# Altium footprint library UNO.PcbLib: 26 footprints (part 1 of 2)
Each footprint in its own frame and in the unit in brackets; x right, y up, seen from the top. Pads: shape width x height; smd on the part's side, far side on the other; paste and mask are expansions set on the pad; w line width, h text height; cw(c..) or ccw(c..) is an arc to the next point about the centre after c.
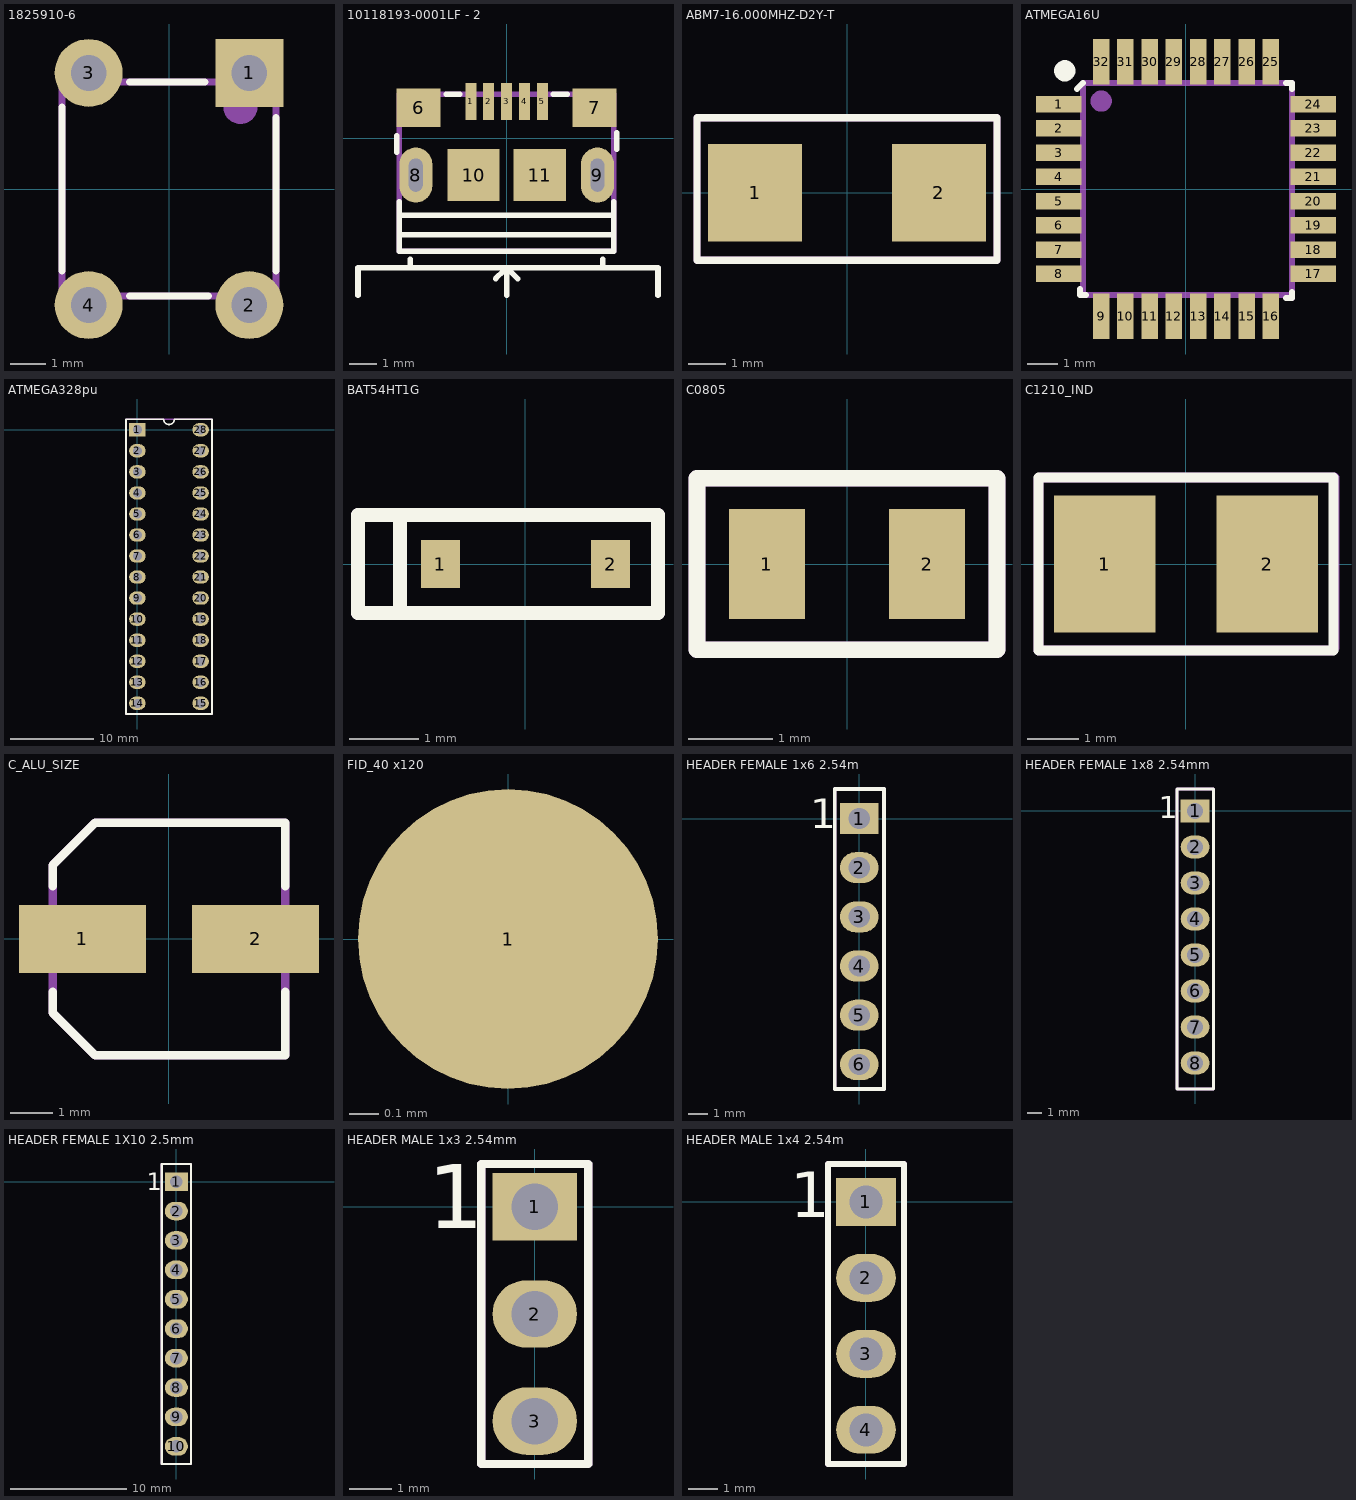
[diagram p0: the footprints below, top view; thin cyan lines are the x and y axes]

## 28-DIP-7.5MM SOCKET [mm]
3D body "dil_socket.stp": height 4.2, standoff -3.17, extent -1.85,-33.75 8.25,1.75

## 1825910-6 [mm]
pads (4):
  rect 1.9x1.9 hole 1: 1(2.25,3.25)
  round 1.9 hole 1: 2(2.25,-3.25) 3(-2.25,3.25) 4(-2.25,-3.25)
Top Overlay:
  lines w0.2: -3,-2.3 -3,2.3 ; -1.1,-3 1.1,-3 ; -1.1,3 1,3 ; 3,-2.3 3,2
Mechanical 29:
  circle w0.508: c2,2.3 r0.224
  lines w0.2: -2.9,-3 3,-3 3,3 -1.1,3 -3,3 -3,2.3 -3,-3 -2.6,-3
  text "'.Designator'" at -1.8,0.286 h1.52
3D body "User Library-FSM4JLH(1825910-5).step": height 5, standoff -3.51, extent -2.995,-3.899 2.995,3.9

## 10118193-0001LF - 2 [mm]
pads (11):
  rect 0.4x1.35 smd paste+0 mask+0.03: 1(-1.3,1.338) 2(-0.65,1.338) 3(0,1.338) 4(0.65,1.338) 5(1.3,1.338)
  rect 1.6x1.4 smd paste+0: 6(-3.2,1.113) 7(3.2,1.113)
  oval 1.2x2 hole 0.5 slot 1.2 at 90 deg paste+0 mask+0.05: 8(-3.3,-1.337) 9(3.3,-1.337)
  rect 1.9x1.9 smd: 10(-1.2,-1.337)
  rect 1.9x1.9 smd paste+0: 11(1.2,-1.337)
Top Overlay:
  lines w0.2: -5.4,-5.7 -5.4,-4.7 3.5,-4.7 ; -4,-0.5 -4,0.1 ; -3.9,-2.3 -3.9,-4.1 3.9,-4.1 3.9,-2.3 ; -3.8,-3.5 3.8,-3.5 ; -3.8,-2.8 3.8,-2.8 ; -3.5,-4.7 -3.5,-4.4 ; -2.2,1.6 -1.7,1.6 ; -0.4,-5.1 -0.1,-4.8 0,-4.8 ; 0,-5.7 0,-4.8 ; 0.05,-4.8 0.1,-4.8 ; 0.4,-5.1 0.1,-4.8 ; 1.7,1.6 2.2,1.6 ; 3.5,-4.4 3.5,-4.7 ; 4,-0.4 4,0.2 ; 5.5,-5.7 5.5,-4.7 3.5,-4.7 ; 0,-4.8 0.1,-4.8
Mechanical 29:
  lines w0.2: -3.9,-4.1 3.9,-4.1 3.9,1.6 -3.9,1.6 -3.9,-4.1
  text "'.Designator'" at -2,-1.414 h1.52
3D body "10118193-0001lfc.stp": height 2.88, standoff -0.92, extent -3.903,-4.171 3.953,1.613

## ABM7-16.000MHZ-D2Y-T [mm]
pads (2):
  rect 2.5x2.6 smd: 1(-2.45,0) 2(2.45,0)
Top Overlay:
  lines w0.2: -4,-1.8 4,-1.8 4,-1.7 4,2 -4,2 -4,-1.8
Mechanical 29:
  lines w0.2: -4,-1.8 4,-1.8 4,2 -2.4,2 -4,2 -4,-1.8
  text "'.Designator'" at -3.046,-0.279 h0.5
3D body "ABM7.STEP": height 1.41, standoff 0.01, extent -2.797,-1.705 3.197,1.8

## ATMEGA16U [mm]
pads (32):
  rect 1.5x0.55 smd paste+0 mask+0.06: 1(-4.2,2.8) 2(-4.2,2) 3(-4.2,1.2) 4(-4.2,0.4) 5(-4.2,-0.4) 6(-4.2,-1.2) 7(-4.2,-2) 8(-4.2,-2.8) 17(4.2,-2.8) 18(4.2,-2) 19(4.2,-1.2) 20(4.2,-0.4) 21(4.2,0.4) 22(4.2,1.2) 23(4.2,2) 24(4.2,2.8)
  rect 0.55x1.5 smd paste+0 mask+0.06: 9(-2.8,-4.2) 10(-2,-4.2) 11(-1.2,-4.2) 12(-0.4,-4.2) 13(0.4,-4.2) 14(1.2,-4.2) 15(2,-4.2) 16(2.8,-4.2) 25(2.8,4.2) 26(2,4.2) 27(1.2,4.2) 28(0.4,4.2) 29(-0.4,4.2) 30(-1.2,4.2) 31(-2,4.2) 32(-2.8,4.2)
Top Overlay:
  circle w0.5: c-4,3.9 r0.1
  lines w0.2: -3.6,3.3 -3.4,3.5 ; -3.5,-3.3 -3.5,-3.5 -3.3,-3.5 ; 3.3,-3.6 3.5,-3.6 3.5,-3.4 ; 3.3,3.5 3.5,3.5 3.5,3.3
Mechanical 29:
  circle w0.5: c-2.8,2.9 r0.1
  lines w0.2: -3.4,-3.5 -3.4,3.5 3.5,3.5 3.5,-3.6 3.4,-3.5 -3.4,-3.5
  text "'.Designator'" at -3.046,-0.538 h1.52
3D body "User Library-tqfp32.step": height 1.2, standoff 0, extent -4.599,-4.6 4.599,4.599

## ATMEGA328pu [mm]
pads (28):
  rect 2x1.6 hole 1.1: 1(0,0)
  oval 2x1.6 hole 1.1: 2(0,-2.54) 3(0,-5.08) 4(0,-7.62) 5(0,-10.16) 6(0,-12.7) 7(0,-15.24) 8(0,-17.78) 9(0,-20.32) 10(0,-22.86) 11(0,-25.4) 12(0,-27.94) 13(0,-30.48) 14(0,-33.02) 15(7.62,-33.02) 16(7.62,-30.48) 17(7.62,-27.94) 18(7.62,-25.4) 19(7.62,-22.86) 20(7.62,-20.32) 21(7.62,-17.78) 22(7.62,-15.24) 23(7.62,-12.7) 24(7.62,-10.16) 25(7.62,-7.62) 26(7.62,-5.08) 27(7.62,-2.54) 28(7.62,0)
Top Overlay:
  lines w0.2: -1.39,-34.31 -1.39,1.27 3.175,1.27 ccw(c3.81,1.27) 4.445,1.27 9.01,1.27 9.01,-34.31 -1.39,-34.31
Mechanical 29:
  circle w0.5: c-0.09,0.09 r0.224
  lines w0.2: -1.39,-34.31 9.01,-34.31 9.01,1.29 -1.39,1.29 -1.39,-34.31
  text "'.Designator'" at 3.948,-18.756 h1.52
3D body "User Library-28 pin dip-2.step": height 1.65, standoff -4.57, extent -0.19,-34.48 7.684,1.46

## BAT54HT1G [mil]
pads (2):
  rect 22x27 smd: 1(-48,0) 2(48,0)
Top Overlay:
  lines w7.87: -70.87,-27.56 -94.49,-27.56 -94.49,27.56 -70.87,27.56 ; -70.87,-27.56 74.8,-27.56 74.8,-13.78 74.8,13.78 74.8,27.56 -66.93,27.56 -70.87,27.56 ; -70.87,-27.56 -70.87,27.56
Mechanical 29:
  lines w7.87: -70.87,-27.56 -94.49,-27.56 -94.49,27.56 -70.87,27.56 ; -70.87,-27.56 74.8,-27.56 74.8,27.56 -70.87,27.56 ; -70.87,-27.56 -70.87,27.56
  text "'.Designator'" at -19.68,3.39 h60
3D body "User Library-SOD323.step": height 35.43, standoff -3.54, extent -47.24,-21.65 51.18,27.56

## C0805 [mm]
pads (2):
  rect 0.9x1.3 smd: 1(-0.95,0) 2(0.95,0)
Top Overlay:
  lines w0.2: -1.778,-1.016 -1.778,0 -1.778,1.016 1.778,1.016 1.778,-1.016 -1.778,-1.016
Mechanical 29:
  lines w0.2: -1.778,-1.016 1.778,-1.016 1.778,1.016 -1.778,1.016 -1.778,-0.508 -1.778,-1.016
  text "'.Designator'" at -1.524,-0.142 h0.6
3D body "CAPC2012X94N EIA 0805.step": height 1.13, standoff 0.19, extent -1,-0.6 1,0.6
3D body "CAPC2012X94N EIA 0805.step": height 0.95, standoff 0.01, extent -1,-0.6 1,0.6

## C1210_IND [mm]
pads (2):
  rect 2x2.7 smd: 1(-1.6,0) 2(1.6,0)
Top Overlay:
  lines w0.2: -2.9,-1.7 2.9,-1.7 2.9,1.7 -2.9,1.7 -2.9,0.85 -2.9,-1.7
Mechanical 29:
  lines w0.2: -2.9,1.672 -2.9,-1.7 -2.898,-1.702 2.87,-1.702 2.921,-1.651 2.921,1.702 -2.87,1.702
  text "'.Designator'" at -1.4,-0.614 h1.52
3D body: height 2.7, standoff -0.01, extent -1.4,-1.25 1.4,1.245
3D body: height 2.7, standoff -0.01, extent -1.903,-1.245 -1.403,1.245
3D body: height 2.7, standoff -0.01, extent 1.401,-1.245 1.901,1.245

## C_ALU_SIZE [mm]
pads (2):
  rect 3x1.6 smd: 1(-2.05,0) 2(2.05,0)
Top Overlay:
  lines w0.2: -2.75,-1.25 -2.75,-1.75 -1.75,-2.75 2.75,-2.75 2.75,-1.25 ; -2.75,1.25 -2.75,1.75 -1.75,2.75 2.75,2.75 2.75,1.25
Mechanical 29:
  lines w0.2: -2.75,1.25 -2.75,1.75 ; -2.75,1.75 -2.75,-1.75 -1.75,-2.75 2.75,-2.75 2.75,2.75 -1.75,2.75 -2.75,1.75
  text "'.Designator'" at -2,-0.214 h1.52
3D body "User Library-capacitor size C.step": height 5.41, standoff -0.01, extent -2.95,-2.65 2.95,2.65

## FID_40 x120 [mil]
pads (1):
  round 40 smd paste-40 mask+40: 1(0,0)

## HEADER FEMALE 1x6 2.54m [mm]
pads (6):
  rect 2x1.6 hole 1.1: 1(0,0)
  oval 2x1.6 hole 1.1: 2(0,-2.54) 3(0,-5.08) 4(0,-7.62) 5(0,-10.16) 6(0,-12.7)
Top Overlay:
  lines w0.2: -1.27,-13.97 1.27,-13.97 1.27,1.524 -1.27,1.524 -1.27,1.27 -1.27,-13.97
  text "1" at -2.54,-0.508 h1.52
Mechanical 29:
  lines w0.2: -1.27,-13.97 1.27,-13.97 1.27,1.524 -1.27,1.524 -1.27,-13.97
  text "'.Designator'" at 0.593,-13.208 h1.27
3D body "m20-7820642_asm.stp": height 8.31, standoff -3.19, extent -1.27,-14.17 1.23,1.47

## HEADER FEMALE 1x8 2.54mm [mm]
pads (8):
  rect 2x1.6 hole 1.1: 1(0,0)
  oval 2x1.6 hole 1.1: 2(0,-2.5) 3(0,-5) 4(0,-7.5) 5(0,-10) 6(0,-12.5) 7(0,-15) 8(0,-17.5)
Top Overlay:
  lines w0.2: -1.27,-19.304 1.27,-19.304 1.27,1.524 -1.27,1.524 -1.27,-19.304
  text "1" at -2.54,-0.508 h1.52
Mechanical 29:
  lines w0.2: -1.27,-19.304 1.27,-19.304 1.27,1.524 -1.27,1.524 -1.27,-19.304
  text "'.Designator'" at 0.508,-16.002 h1.52
3D body "m20-7820842_asm.stp": height 8.31, standoff -3.19, extent -1.27,-19.25 1.23,1.47

## HEADER FEMALE 1X10 2.5mm [mm]
pads (10):
  rect 2x1.6 hole 1.1: 1(0,0)
  oval 2x1.6 hole 1.1: 2(0,-2.54) 3(0,-5.08) 4(0,-7.62) 5(0,-10.16) 6(0,-12.7) 7(0,-15.24) 8(0,-17.78) 9(0,-20.32) 10(0,-22.86)
Top Overlay:
  lines w0.2: -1.27,-24.384 1.27,-24.384 1.27,1.524 -1.27,1.524 -1.27,-24.384
  text "1" at -2.54,-0.762 h1.52
Mechanical 29:
  circle w0.5: c0,0 r0.359
  lines w0.2: -1.27,-24.384 1.27,-24.384 1.27,1.524 -1.27,1.524 -1.27,-24.384
  text "'.Designator'" at 0.762,-17.272 h1.52
3D body "m20-7821046_asm.stp": height 8.31, standoff -3.19, extent -1.27,-24.33 1.23,1.47

## HEADER MALE 1x3 2.54mm [mm]
pads (3):
  rect 2x1.6 hole 1.1: 1(0,0)
  oval 2x1.6 hole 1.1: 2(0,-2.54) 3(0,-5.08)
Top Overlay:
  lines w0.2: -1.27,-6.096 1.27,-6.096 1.27,1.016 -1.27,1.016 -1.27,-6.096
  text "1" at -2.54,-0.508 h1.52
Mechanical 29:
  lines w0.2: -1.27,-6.096 1.27,-6.096 1.27,1.016 -1.27,1.016 -1.27,-6.096
  text "'.Designator'" at -0.946,-2.623 h1.27
3D body "HDR_1x3_White.stp": height 8.19, standoff -3.31, extent -1.27,-6.15 1.14,1.07

## HEADER MALE 1x4 2.54m [mm]
pads (4):
  rect 2x1.6 hole 1.1: 1(0,0)
  oval 2x1.6 hole 1.1: 2(0,-2.54) 3(0,-5.08) 4(0,-7.62)
Top Overlay:
  lines w0.2: -1.27,-8.763 1.27,-8.763 1.27,1.27 -1.27,1.27 -1.27,-8.763
  text "1" at -2.54,-0.508 h1.52
Mechanical 29:
  lines w0.2: -1.27,-8.763 1.27,-8.763 1.27,1.27 -1.27,1.27 -1.27,-8.763
  text "'.Designator'" at 0.524,-5.334 h1.27
3D body "HDR_1x4_White.stp": height 8.19, standoff -3.31, extent -1.21,-8.68 1.2,1.08